# Altium integrated library Linear Technology Power Management Switching Regulator LT1074-LT8705.IntLib: 2252 symbols (part 71 of 148)
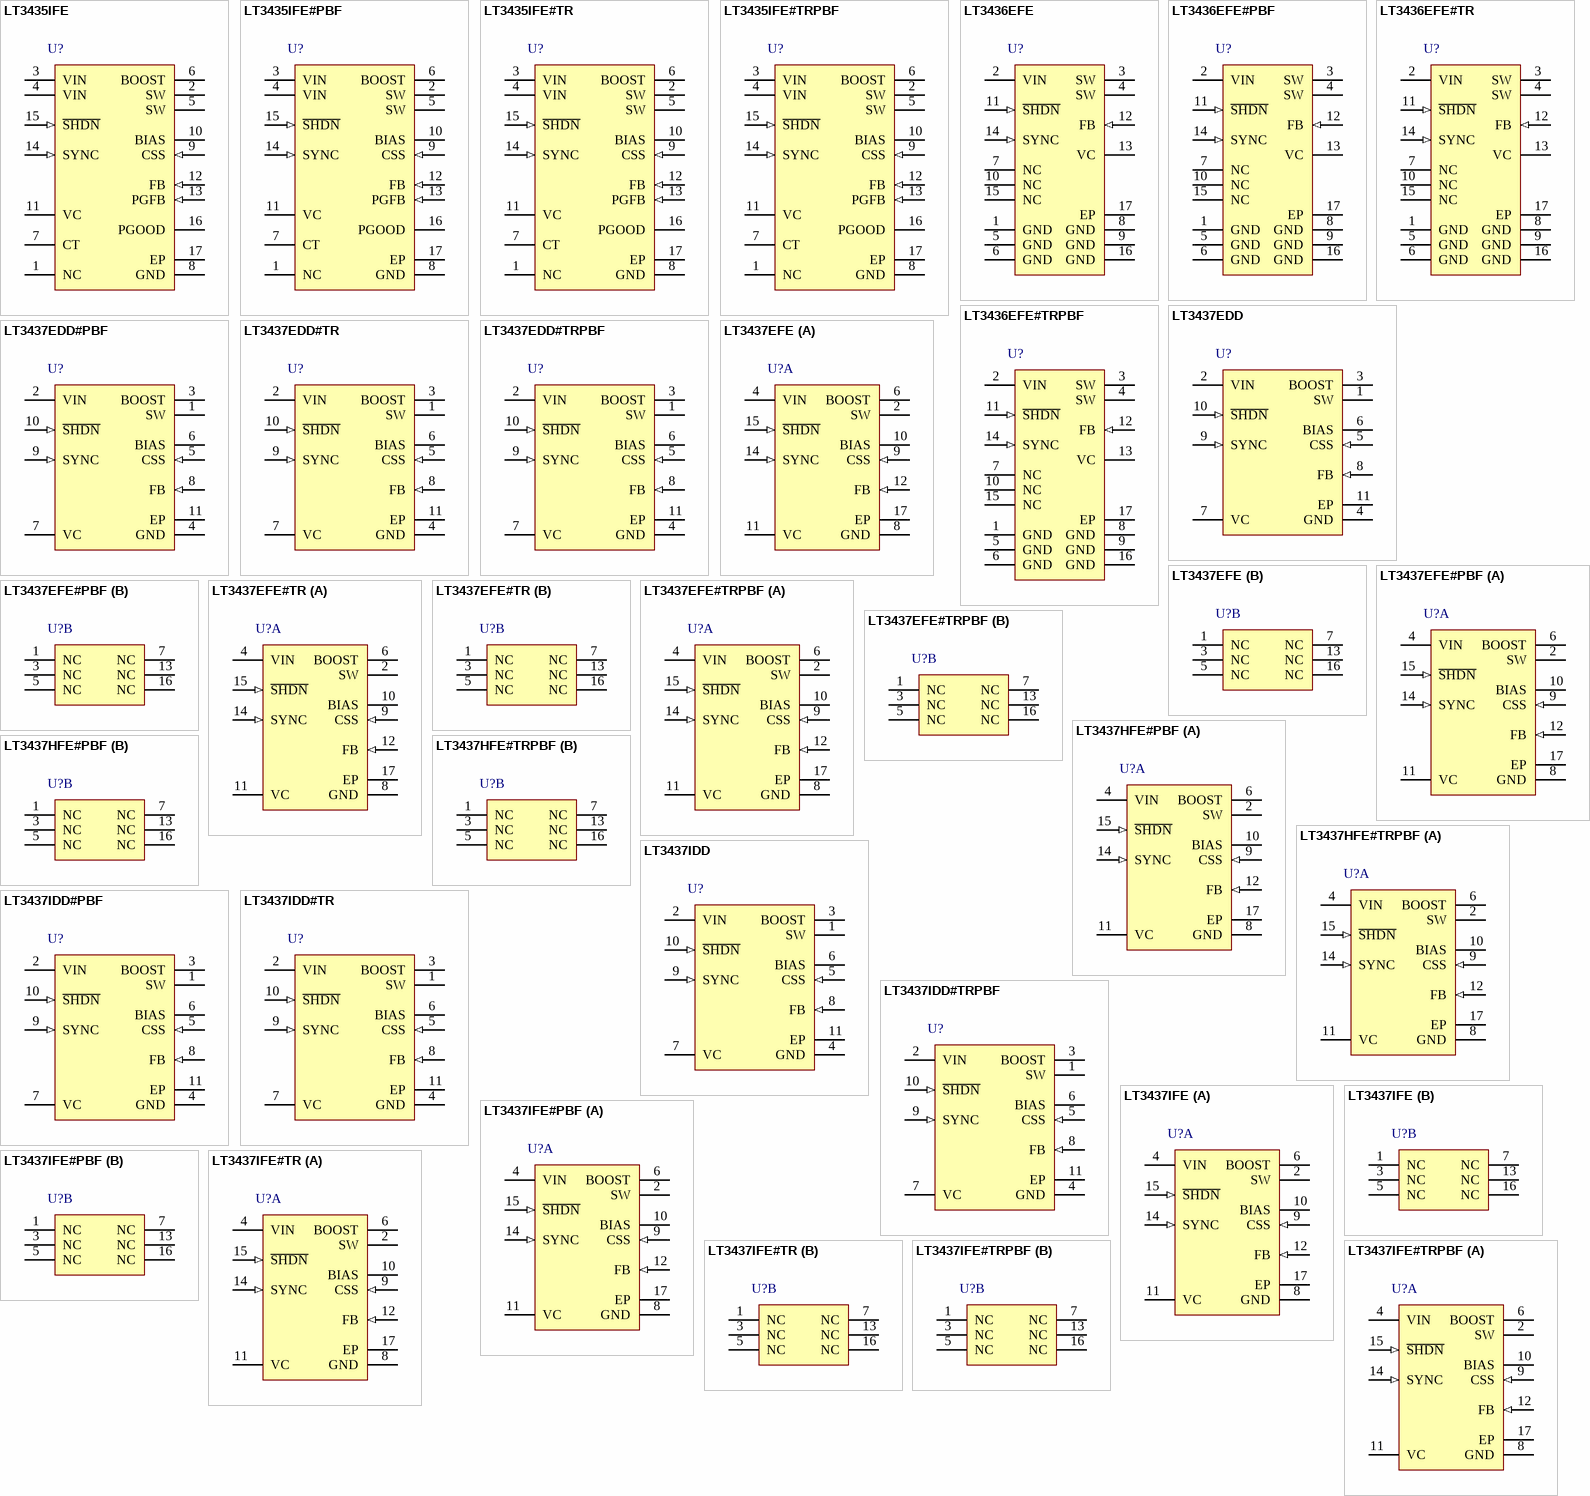
[diagram p141: symbols LT3435IFE to LT3437IFE#TRPBF]

## LT3437IDD#TRPBF
designator U?
High Voltage 500 mA, 200 kHz Step-Down Switching Regulator with 100 uA Quiescent Current, 10-pin SON (DD-10), -40 to 125 degC, Pb-Free, Tape and Reel; Manufacturer: Linear Technology; PartNumber: LT3437IDD#TRPBF; Frequency Sync Range: 240kHz - 700kHz; Number of Outputs: 1; Over Voltage Protection(V): 80; DatasheetVersion: Rev. C; PackageVersion: Rev. C, 06/2010; PackageReference: DD-10; PackageDescription: 10-Pin Plastic DFN, Body 3 x 3 mm, Pitch 0.5 mm; Supplier 1: Digi-Key; Supplier Part Number 1: LT3437IDD#TRPBF-ND; Supplier 2: Newark; Supplier Part Number 2: 57M8150; Packing: Tape and Reel; RoHS: TRUE; Mounting Technology: Surface Mount; Code_JEDEC: MO-229; ComponentLink1Description: Manufacturer URL; ComponentLink1URL: http://www.linear.com/; ComponentLink2Description: Datasheet; ComponentLink2URL: http://cds.linear.com/docs/en/datasheet/3437fc.pdf; ComponentLink3Description: Package Specification; ComponentLink3URL: http://cds.linear.com/docs/en/packaging/DFN_10_05-08-1699.pdf
footprint LT-DD-10_V (SON, 10-Leads, Body 3x3mm, Pitch 0.5mm, Thermal Pad 2.38x1.65mm)
pins: 1 SW (power) "The SW pin is the emitter of the on-chip power NPN switch. This pin is driven up to the input pin voltage during switch on time. Inductor current drives the SW pin negative during switch off time. Negative voltage is clamped (See Datasheet)", 2 VIN (power) "This is the collector of the on-chip power NPN switch. VIN powers the internal control circuitry when a voltage on the BIAS pin is not present. High di/dt edges occur on this pin during switch turn on and off. Keep the path (See Datasheet)", 3 BOOST "The BOOST pin is used to provide a drive voltage, higher than the input voltage, to the internal bipolar NPN power switch. Without this added voltage, the typical switch voltage loss would be about 1.5V. The additional BOOST (See Datasheet)", 4 GND (power) "The GND pin connection acts as the reference for the regulated output, so load regulation will suffer if the “ground?end of the load is not at the same voltage as the GND pin of the IC. This condition will occur w(See Datasheet)", 5 CSS (in) "A capacitor from the CSS pin to the regulated output voltage determines the output voltage ramp rate during start-up. When the current through the CSS capacitor exceeds the CSS threshold (ICSS), the voltage ramp of the (See Datasheet)", 6 BIAS (power) "The BIAS pin is used to improve efficiency when operating at higher input voltages and light load current. Connecting this pin to the regulated output voltage forces most of the internal circuitry to draw its operating (See Datasheet)", 7 VC "The VC pin is the output of the error amplifier and the input of the peak switch current comparator. It is normally used for frequency compensation, but can also serve as a current clamp or control loop override. VC sits at (See Datasheet)", 8 FB (in) "The feedback pin is used to determine the output voltage using an external voltage divider from the output that generates 1.25V at the FB pin. When the FB pin drops below 0.9V, switching frequency is reduced, the SYNC (See Datasheet)", 9 SYNC (in) "The SYNC pin is used to synchronize the internal oscillator to an external signal. It is directly logic compatible and can be driven with any signal between 25% and 75% duty cycle. The synchronizing range is equal to maximum (See Datasheet)", 10 ~{SHDN} (in) "The S\H\D\N\ pin is used to turn off the regulator and to reduce input current to less than 1uA. The S\H\D\N\ pin requires a voltage above 1.3V with a typical source current of 5uA to take the IC out of the shutdown state.", 11 EP (power) "Ground. Must be soldered to the PCB."

## LT3437IFE
designator U?
High Voltage 500 mA, 200 kHz Step-Down Switching Regulator with 100 uA Quiescent Current, 16-pin SOP (FE-16), -40 to 125 degC; Manufacturer: Linear Technology; PartNumber: LT3437IFE; Frequency Sync Range: 240kHz - 700kHz; Number of Outputs: 1; Over Voltage Protection(V): 80; DatasheetVersion: Rev. C; PackageVersion: Rev. J, 11/2012; PackageReference: FE-16; PackageDescription: 16-Pin Plastic TSSOP, Body 5 x 4.4 mm, Pitch 0.65 mm; Supplier 1: Newark; Supplier Part Number 1: 57M8151; RoHS: FALSE; Mounting Technology: Surface Mount; ComponentLink1Description: Manufacturer URL; ComponentLink1URL: http://www.linear.com/; ComponentLink2Description: Datasheet; ComponentLink2URL: http://cds.linear.com/docs/en/datasheet/3437fc.pdf; ComponentLink3Description: Package Specification; ComponentLink3URL: http://cds.linear.com/docs/en/packaging/05081663__J_FE16(BC).pdf
footprint LT-FE-16-EPV-BC_N (SOP, 16-Leads, Body 5.1x4.5mm, Pitch 0.65mm, Thermal Pad 3.58x2.94mm, IPC Medium Density)
footprint LT-FE-16-EPV-BC_L (SOP, 16-Leads, Body 5.1x4.5mm, Pitch 0.65mm, Thermal Pad 3.58x2.94mm, IPC High Density)
footprint LT-FE-16-EPV-BC_M (SOP, 16-Leads, Body 5.1x4.5mm, Pitch 0.65mm, Thermal Pad 3.58x2.94mm, IPC Low Density)
part A pins: 2 SW (power) "The SW pin is the emitter of the on-chip power NPN switch. This pin is driven up to the input pin voltage during switch on time. Inductor current drives the SW pin negative during switch off time. Negative voltage is clamped (See Datasheet)", 4 VIN (power) "This is the collector of the on-chip power NPN switch. VIN powers the internal control circuitry when a voltage on the BIAS pin is not present. High di/dt edges occur on this pin during switch turn on and off. Keep the path (See Datasheet)", 6 BOOST "The BOOST pin is used to provide a drive voltage, higher than the input voltage, to the internal bipolar NPN power switch. Without this added voltage, the typical switch voltage loss would be about 1.5V. The additional BOOST (See Datasheet)", 8 GND (power) "The GND pin connection acts as the reference for the regulated output, so load regulation will suffer if the “ground?end of the load is not at the same voltage as the GND pin of the IC. This condition will occur w(See Datasheet)", 9 CSS (in) "A capacitor from the CSS pin to the regulated output voltage determines the output voltage ramp rate during start-up. When the current through the CSS capacitor exceeds the CSS threshold (ICSS), the voltage ramp of the (See Datasheet)", 10 BIAS (power) "The BIAS pin is used to improve efficiency when operating at higher input voltages and light load current. Connecting this pin to the regulated output voltage forces most of the internal circuitry to draw its operating (See Datasheet)", 11 VC "The VC pin is the output of the error amplifier and the input of the peak switch current comparator. It is normally used for frequency compensation, but can also serve as a current clamp or control loop override. VC sits at (See Datasheet)", 12 FB (in) "The feedback pin is used to determine the output voltage using an external voltage divider from the output that generates 1.25V at the FB pin. When the FB pin drops below 0.9V, switching frequency is reduced, the SYNC (See Datasheet)", 14 SYNC (in) "The SYNC pin is used to synchronize the internal oscillator to an external signal. It is directly logic compatible and can be driven with any signal between 25% and 75% duty cycle. The synchronizing range is equal to maximum (See Datasheet)", 15 ~{SHDN} (in) "The S\H\D\N\ pin is used to turn off the regulator and to reduce input current to less than 1uA. The S\H\D\N\ pin requires a voltage above 1.3V with a typical source current of 5uA to take the IC out of the shutdown state.", 17 EP (power) "Ground. Must be soldered to the PCB."
part B pins: 1 NC "No Connection. The NC pins are electrically isolated from the LT3437. The NC pins may be connected to PCB traces to aid PCB layout.", 3 NC "No Connection. The NC pins are electrically isolated from the LT3437. The NC pins may be connected to PCB traces to aid PCB layout.", 5 NC "No Connection. The NC pins are electrically isolated from the LT3437. The NC pins may be connected to PCB traces to aid PCB layout.", 7 NC "No Connection. The NC pins are electrically isolated from the LT3437. The NC pins may be connected to PCB traces to aid PCB layout.", 13 NC "No Connection. The NC pins are electrically isolated from the LT3437. The NC pins may be connected to PCB traces to aid PCB layout.", 16 NC "No Connection. The NC pins are electrically isolated from the LT3437. The NC pins may be connected to PCB traces to aid PCB layout."

## LT3437IFE#PBF
designator U?
High Voltage 500 mA, 200 kHz Step-Down Switching Regulator with 100 uA Quiescent Current, 16-pin SOP (FE-16), -40 to 125 degC, Pb-Free; Manufacturer: Linear Technology; PartNumber: LT3437IFE#PBF; Frequency Sync Range: 240kHz - 700kHz; Number of Outputs: 1; Over Voltage Protection(V): 80; DatasheetVersion: Rev. C; PackageVersion: Rev. J, 11/2012; PackageReference: FE-16; PackageDescription: 16-Pin Plastic TSSOP, Body 5 x 4.4 mm, Pitch 0.65 mm; Supplier 1: Digi-Key; Supplier Part Number 1: LT3437IFE#PBF-ND; Supplier 2: Farnell; Supplier Part Number 2: 2294900; Supplier 3: Newark; Supplier Part Number 3: 57M8152; RoHS: TRUE; Mounting Technology: Surface Mount; ComponentLink1Description: Manufacturer URL; ComponentLink1URL: http://www.linear.com/; ComponentLink2Description: Datasheet; ComponentLink2URL: http://cds.linear.com/docs/en/datasheet/3437fc.pdf; ComponentLink3Description: Package Specification; ComponentLink3URL: http://cds.linear.com/docs/en/packaging/05081663__J_FE16(BC).pdf
footprint LT-FE-16-EPV-BC_N (SOP, 16-Leads, Body 5.1x4.5mm, Pitch 0.65mm, Thermal Pad 3.58x2.94mm, IPC Medium Density)
footprint LT-FE-16-EPV-BC_L (SOP, 16-Leads, Body 5.1x4.5mm, Pitch 0.65mm, Thermal Pad 3.58x2.94mm, IPC High Density)
footprint LT-FE-16-EPV-BC_M (SOP, 16-Leads, Body 5.1x4.5mm, Pitch 0.65mm, Thermal Pad 3.58x2.94mm, IPC Low Density)
part A pins: 2 SW (power) "The SW pin is the emitter of the on-chip power NPN switch. This pin is driven up to the input pin voltage during switch on time. Inductor current drives the SW pin negative during switch off time. Negative voltage is clamped (See Datasheet)", 4 VIN (power) "This is the collector of the on-chip power NPN switch. VIN powers the internal control circuitry when a voltage on the BIAS pin is not present. High di/dt edges occur on this pin during switch turn on and off. Keep the path (See Datasheet)", 6 BOOST "The BOOST pin is used to provide a drive voltage, higher than the input voltage, to the internal bipolar NPN power switch. Without this added voltage, the typical switch voltage loss would be about 1.5V. The additional BOOST (See Datasheet)", 8 GND (power) "The GND pin connection acts as the reference for the regulated output, so load regulation will suffer if the “ground?end of the load is not at the same voltage as the GND pin of the IC. This condition will occur w(See Datasheet)", 9 CSS (in) "A capacitor from the CSS pin to the regulated output voltage determines the output voltage ramp rate during start-up. When the current through the CSS capacitor exceeds the CSS threshold (ICSS), the voltage ramp of the (See Datasheet)", 10 BIAS (power) "The BIAS pin is used to improve efficiency when operating at higher input voltages and light load current. Connecting this pin to the regulated output voltage forces most of the internal circuitry to draw its operating (See Datasheet)", 11 VC "The VC pin is the output of the error amplifier and the input of the peak switch current comparator. It is normally used for frequency compensation, but can also serve as a current clamp or control loop override. VC sits at (See Datasheet)", 12 FB (in) "The feedback pin is used to determine the output voltage using an external voltage divider from the output that generates 1.25V at the FB pin. When the FB pin drops below 0.9V, switching frequency is reduced, the SYNC (See Datasheet)", 14 SYNC (in) "The SYNC pin is used to synchronize the internal oscillator to an external signal. It is directly logic compatible and can be driven with any signal between 25% and 75% duty cycle. The synchronizing range is equal to maximum (See Datasheet)", 15 ~{SHDN} (in) "The S\H\D\N\ pin is used to turn off the regulator and to reduce input current to less than 1uA. The S\H\D\N\ pin requires a voltage above 1.3V with a typical source current of 5uA to take the IC out of the shutdown state.", 17 EP (power) "Ground. Must be soldered to the PCB."
part B pins: 1 NC "No Connection. The NC pins are electrically isolated from the LT3437. The NC pins may be connected to PCB traces to aid PCB layout.", 3 NC "No Connection. The NC pins are electrically isolated from the LT3437. The NC pins may be connected to PCB traces to aid PCB layout.", 5 NC "No Connection. The NC pins are electrically isolated from the LT3437. The NC pins may be connected to PCB traces to aid PCB layout.", 7 NC "No Connection. The NC pins are electrically isolated from the LT3437. The NC pins may be connected to PCB traces to aid PCB layout.", 13 NC "No Connection. The NC pins are electrically isolated from the LT3437. The NC pins may be connected to PCB traces to aid PCB layout.", 16 NC "No Connection. The NC pins are electrically isolated from the LT3437. The NC pins may be connected to PCB traces to aid PCB layout."

## LT3437IFE#TR
designator U?
High Voltage 500 mA, 200 kHz Step-Down Switching Regulator with 100 uA Quiescent Current, 16-pin SOP (FE-16), -40 to 125 degC, Tape and Reel; Manufacturer: Linear Technology; PartNumber: LT3437IFE#TR; Frequency Sync Range: 240kHz - 700kHz; Number of Outputs: 1; Over Voltage Protection(V): 80; DatasheetVersion: Rev. C; PackageVersion: Rev. J, 11/2012; PackageReference: FE-16; PackageDescription: 16-Pin Plastic TSSOP, Body 5 x 4.4 mm, Pitch 0.65 mm; Packing: Tape and Reel; RoHS: FALSE; Mounting Technology: Surface Mount; ComponentLink1Description: Manufacturer URL; ComponentLink1URL: http://www.linear.com/; ComponentLink2Description: Datasheet; ComponentLink2URL: http://cds.linear.com/docs/en/datasheet/3437fc.pdf; ComponentLink3Description: Package Specification; ComponentLink3URL: http://cds.linear.com/docs/en/packaging/05081663__J_FE16(BC).pdf
footprint LT-FE-16-EPV-BC_N (SOP, 16-Leads, Body 5.1x4.5mm, Pitch 0.65mm, Thermal Pad 3.58x2.94mm, IPC Medium Density)
footprint LT-FE-16-EPV-BC_L (SOP, 16-Leads, Body 5.1x4.5mm, Pitch 0.65mm, Thermal Pad 3.58x2.94mm, IPC High Density)
footprint LT-FE-16-EPV-BC_M (SOP, 16-Leads, Body 5.1x4.5mm, Pitch 0.65mm, Thermal Pad 3.58x2.94mm, IPC Low Density)
part A pins: 2 SW (power) "The SW pin is the emitter of the on-chip power NPN switch. This pin is driven up to the input pin voltage during switch on time. Inductor current drives the SW pin negative during switch off time. Negative voltage is clamped (See Datasheet)", 4 VIN (power) "This is the collector of the on-chip power NPN switch. VIN powers the internal control circuitry when a voltage on the BIAS pin is not present. High di/dt edges occur on this pin during switch turn on and off. Keep the path (See Datasheet)", 6 BOOST "The BOOST pin is used to provide a drive voltage, higher than the input voltage, to the internal bipolar NPN power switch. Without this added voltage, the typical switch voltage loss would be about 1.5V. The additional BOOST (See Datasheet)", 8 GND (power) "The GND pin connection acts as the reference for the regulated output, so load regulation will suffer if the “ground?end of the load is not at the same voltage as the GND pin of the IC. This condition will occur w(See Datasheet)", 9 CSS (in) "A capacitor from the CSS pin to the regulated output voltage determines the output voltage ramp rate during start-up. When the current through the CSS capacitor exceeds the CSS threshold (ICSS), the voltage ramp of the (See Datasheet)", 10 BIAS (power) "The BIAS pin is used to improve efficiency when operating at higher input voltages and light load current. Connecting this pin to the regulated output voltage forces most of the internal circuitry to draw its operating (See Datasheet)", 11 VC "The VC pin is the output of the error amplifier and the input of the peak switch current comparator. It is normally used for frequency compensation, but can also serve as a current clamp or control loop override. VC sits at (See Datasheet)", 12 FB (in) "The feedback pin is used to determine the output voltage using an external voltage divider from the output that generates 1.25V at the FB pin. When the FB pin drops below 0.9V, switching frequency is reduced, the SYNC (See Datasheet)", 14 SYNC (in) "The SYNC pin is used to synchronize the internal oscillator to an external signal. It is directly logic compatible and can be driven with any signal between 25% and 75% duty cycle. The synchronizing range is equal to maximum (See Datasheet)", 15 ~{SHDN} (in) "The S\H\D\N\ pin is used to turn off the regulator and to reduce input current to less than 1uA. The S\H\D\N\ pin requires a voltage above 1.3V with a typical source current of 5uA to take the IC out of the shutdown state.", 17 EP (power) "Ground. Must be soldered to the PCB."
part B pins: 1 NC "No Connection. The NC pins are electrically isolated from the LT3437. The NC pins may be connected to PCB traces to aid PCB layout.", 3 NC "No Connection. The NC pins are electrically isolated from the LT3437. The NC pins may be connected to PCB traces to aid PCB layout.", 5 NC "No Connection. The NC pins are electrically isolated from the LT3437. The NC pins may be connected to PCB traces to aid PCB layout.", 7 NC "No Connection. The NC pins are electrically isolated from the LT3437. The NC pins may be connected to PCB traces to aid PCB layout.", 13 NC "No Connection. The NC pins are electrically isolated from the LT3437. The NC pins may be connected to PCB traces to aid PCB layout.", 16 NC "No Connection. The NC pins are electrically isolated from the LT3437. The NC pins may be connected to PCB traces to aid PCB layout."

## LT3437IFE#TRPBF
designator U?
High Voltage 500 mA, 200 kHz Step-Down Switching Regulator with 100 uA Quiescent Current, 16-pin SOP (FE-16), -40 to 125 degC, Pb-Free, Tape and Reel; Manufacturer: Linear Technology; PartNumber: LT3437IFE#TRPBF; Frequency Sync Range: 240kHz - 700kHz; Number of Outputs: 1; Over Voltage Protection(V): 80; DatasheetVersion: Rev. C; PackageVersion: Rev. J, 11/2012; PackageReference: FE-16; PackageDescription: 16-Pin Plastic TSSOP, Body 5 x 4.4 mm, Pitch 0.65 mm; Supplier 1: Digi-Key; Supplier Part Number 1: LT3437IFE#TRPBF-ND; Supplier 2: Newark; Supplier Part Number 2: 57M8154; Packing: Tape and Reel; RoHS: TRUE; Mounting Technology: Surface Mount; ComponentLink1Description: Manufacturer URL; ComponentLink1URL: http://www.linear.com/; ComponentLink2Description: Datasheet; ComponentLink2URL: http://cds.linear.com/docs/en/datasheet/3437fc.pdf; ComponentLink3Description: Package Specification; ComponentLink3URL: http://cds.linear.com/docs/en/packaging/05081663__J_FE16(BC).pdf
footprint LT-FE-16-EPV-BC_N (SOP, 16-Leads, Body 5.1x4.5mm, Pitch 0.65mm, Thermal Pad 3.58x2.94mm, IPC Medium Density)
footprint LT-FE-16-EPV-BC_L (SOP, 16-Leads, Body 5.1x4.5mm, Pitch 0.65mm, Thermal Pad 3.58x2.94mm, IPC High Density)
footprint LT-FE-16-EPV-BC_M (SOP, 16-Leads, Body 5.1x4.5mm, Pitch 0.65mm, Thermal Pad 3.58x2.94mm, IPC Low Density)
part A pins: 2 SW (power) "The SW pin is the emitter of the on-chip power NPN switch. This pin is driven up to the input pin voltage during switch on time. Inductor current drives the SW pin negative during switch off time. Negative voltage is clamped (See Datasheet)", 4 VIN (power) "This is the collector of the on-chip power NPN switch. VIN powers the internal control circuitry when a voltage on the BIAS pin is not present. High di/dt edges occur on this pin during switch turn on and off. Keep the path (See Datasheet)", 6 BOOST "The BOOST pin is used to provide a drive voltage, higher than the input voltage, to the internal bipolar NPN power switch. Without this added voltage, the typical switch voltage loss would be about 1.5V. The additional BOOST (See Datasheet)", 8 GND (power) "The GND pin connection acts as the reference for the regulated output, so load regulation will suffer if the “ground?end of the load is not at the same voltage as the GND pin of the IC. This condition will occur w(See Datasheet)", 9 CSS (in) "A capacitor from the CSS pin to the regulated output voltage determines the output voltage ramp rate during start-up. When the current through the CSS capacitor exceeds the CSS threshold (ICSS), the voltage ramp of the (See Datasheet)", 10 BIAS (power) "The BIAS pin is used to improve efficiency when operating at higher input voltages and light load current. Connecting this pin to the regulated output voltage forces most of the internal circuitry to draw its operating (See Datasheet)", 11 VC "The VC pin is the output of the error amplifier and the input of the peak switch current comparator. It is normally used for frequency compensation, but can also serve as a current clamp or control loop override. VC sits at (See Datasheet)", 12 FB (in) "The feedback pin is used to determine the output voltage using an external voltage divider from the output that generates 1.25V at the FB pin. When the FB pin drops below 0.9V, switching frequency is reduced, the SYNC (See Datasheet)", 14 SYNC (in) "The SYNC pin is used to synchronize the internal oscillator to an external signal. It is directly logic compatible and can be driven with any signal between 25% and 75% duty cycle. The synchronizing range is equal to maximum (See Datasheet)", 15 ~{SHDN} (in) "The S\H\D\N\ pin is used to turn off the regulator and to reduce input current to less than 1uA. The S\H\D\N\ pin requires a voltage above 1.3V with a typical source current of 5uA to take the IC out of the shutdown state.", 17 EP (power) "Ground. Must be soldered to the PCB."
part B pins: 1 NC "No Connection. The NC pins are electrically isolated from the LT3437. The NC pins may be connected to PCB traces to aid PCB layout.", 3 NC "No Connection. The NC pins are electrically isolated from the LT3437. The NC pins may be connected to PCB traces to aid PCB layout.", 5 NC "No Connection. The NC pins are electrically isolated from the LT3437. The NC pins may be connected to PCB traces to aid PCB layout.", 7 NC "No Connection. The NC pins are electrically isolated from the LT3437. The NC pins may be connected to PCB traces to aid PCB layout.", 13 NC "No Connection. The NC pins are electrically isolated from the LT3437. The NC pins may be connected to PCB traces to aid PCB layout.", 16 NC "No Connection. The NC pins are electrically isolated from the LT3437. The NC pins may be connected to PCB traces to aid PCB layout."

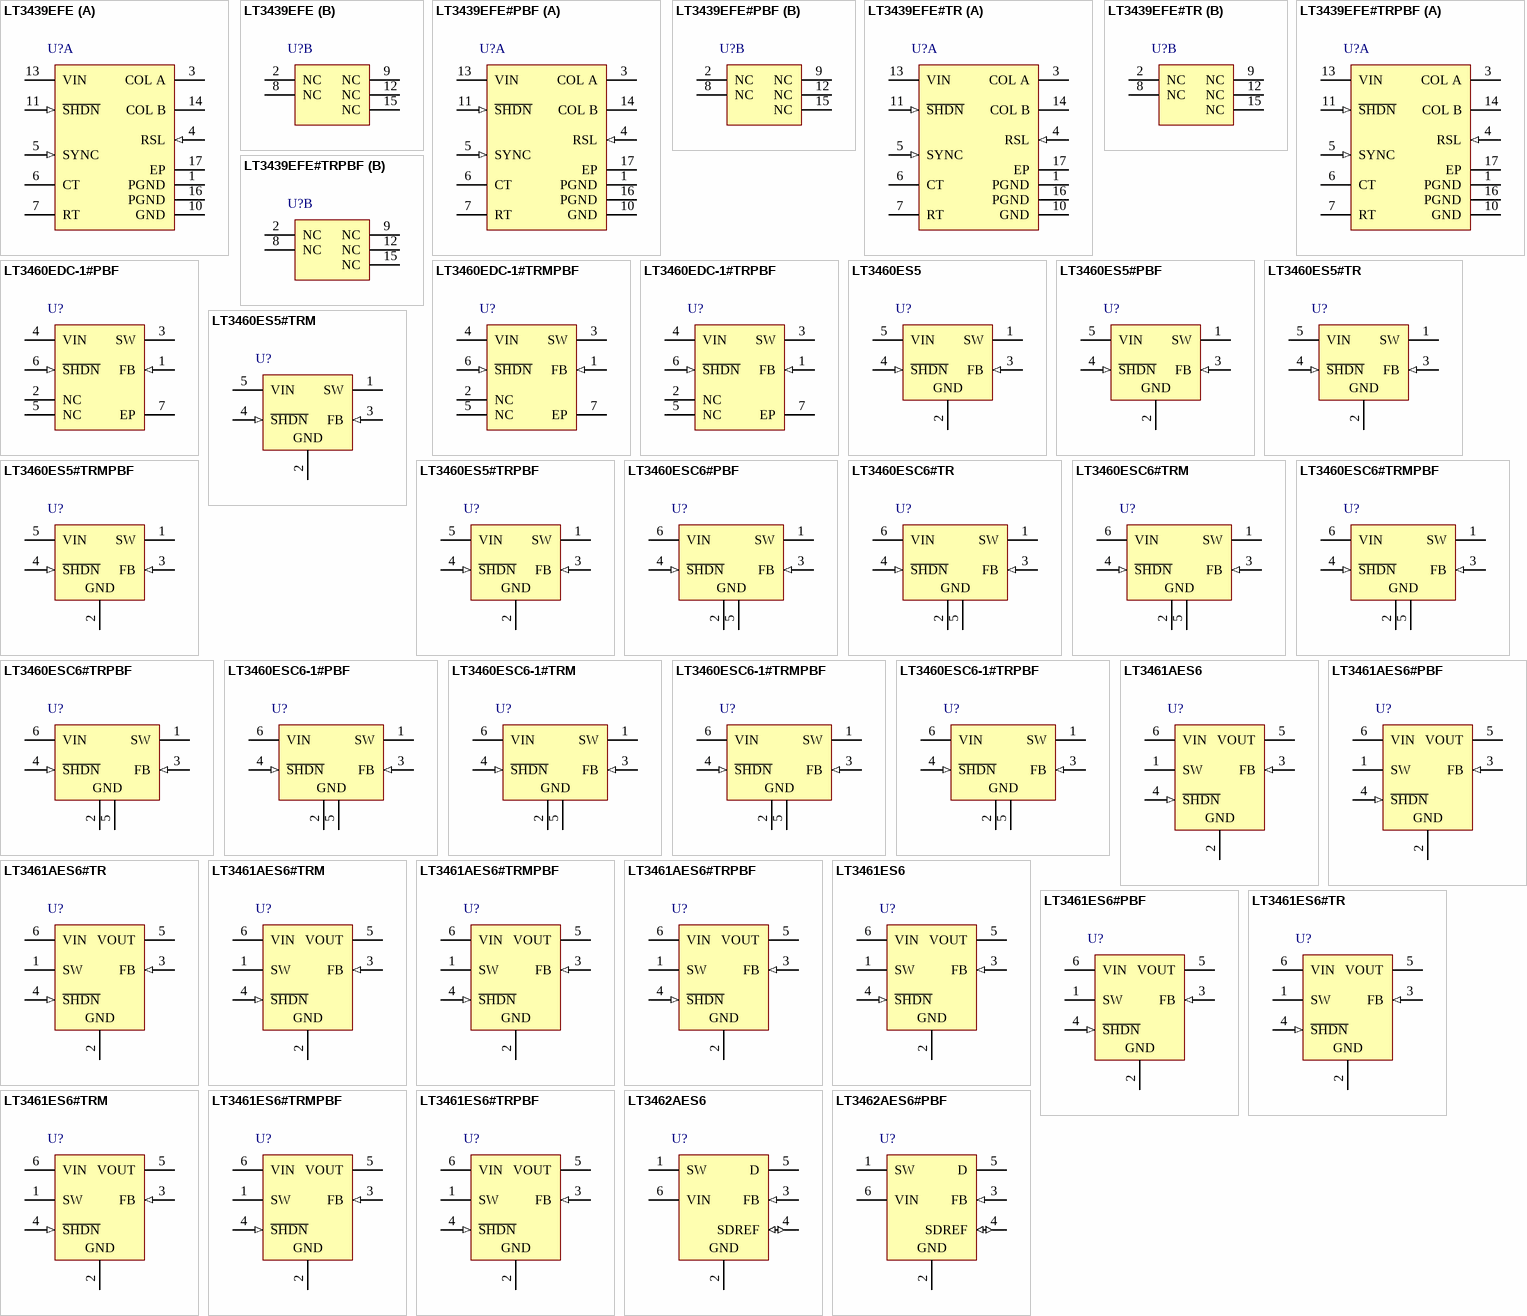
[diagram p35: symbols LT3439EFE to LT3462AES6#PBF]

## LT3439EFE
designator U?
Slew Rate Controlled Ultralow Noise1 A Isolated DC/DC Transformer Driver Min, 16-pin SOP (FE-16-EPV-BA), -40 to 125 degC; Manufacturer: Linear Technology; PartNumber: LT3439EFE; Frequency Sync Range: 20kHz - 300kHz; Number of Outputs: 1; PackageVersion: Rev. I, 05/2011; PackageReference: FE-16; PackageDescription: 16-Pin Plastic TSSOP, Body 5 x 4.4 mm, Pitch 0.65 mm; Supplier 1: Digi-Key; Supplier Part Number 1: LT3439EFE-ND; RoHS: FALSE; Mounting Technology: Surface Mount; ComponentLink1Description: Manufacturer URL; ComponentLink1URL: http://www.linear.com/; ComponentLink2Description: Datasheet; ComponentLink2URL: http://cds.linear.com/docs/en/datasheet/3439fs.pdf; ComponentLink3Description: Package Specification; ComponentLink3URL: http://cds.linear.com/docs/en/packaging/05081663_J_FE16(BA).pdf
footprint LT-FE-16-EPV-BA_N (SOP, 16-Leads, Body 5x4.4mm, Pitch 0.65mm, Thermal Pad 2.74x2.74mm, IPC Medium Density)
footprint LT-FE-16-EPV-BA_L (SOP, 16-Leads, Body 5x4.4mm, Pitch 0.65mm, Thermal Pad 2.74x2.74mm, IPC High Density)
footprint LT-FE-16-EPV-BA_M (SOP, 16-Leads, Body 5x4.4mm, Pitch 0.65mm, Thermal Pad 2.74x2.74mm, IPC Low Density)
part A pins: 1 PGND (power) "Power ground is connected to the emitter of the power switches via an internal sense resistor. It has large currents flowing through it and should be connected to a good quality ground plane.", 3 COL A (oc) "These are the open collectors of the output power switches. They are connected to the outer terminals of the center tap transformer. Large currents flow into these pins so external traces should be kept as short as possible.", 4 RSL (in) "The slew control resistor sets the maximum current and voltage slew rate for the collectors A and B. The minimum resistor value is 3.4k for fast slewing and the maximum resistor is 34k for slow slewing. For more details, see (See Datasheet)", 5 SYNC (in) "The SYNC pin can be used to synchronize the oscillator to an external clock. RT and CT should be set such that the oscillator clock frequency is approximately 10% below the external clock frequency. If unused, this pin (See Datasheet)", 6 CT "The oscillator capacitor pin is used in conjunction with the RT pin to set the oscillator frequency. For RT = 16.9k, CT can be calculated as follows: CT(nF) = 70/fOSC(kHz). The transformer operating frequency and the (See Datasheet)", 7 RT "The oscillator resistor pin is used to set the charge and discharge currents of the oscillator capacitor. The nominal value is 16.9k. The resistance can be adjusted between +/-25% of nominal for better frequency accuracy.", 10 GND (power) "Signal Ground. The oscillator, slew control circuitry and the internal regulator are referred to signal ground. Internally, signal ground is tied to substrate and the exposed backside of the device. Connect the GND pin to (See Datasheet)", 11 ~{SHDN} (in) "The S\H\D\N\ pin is used to shut down the part. Grounding this pin will disable all internal circuitry. Increasing the S\H\D\N\ voltage above the turn-on threshold will enable the part. At the turn-on threshold, (See Datasheet)", 13 VIN (power) "This is the supply pin for the part and should be bypassed with a 4.7uF or greater, low ESR capacitor. When VIN <= 2.5V, an internal undervoltage lockout circuit will trip and turn both outputs off.", 14 COL B (oc) "These are the open collectors of the output power switches. They are connected to the outer terminals of the center tap transformer. Large currents flow into these pins so external traces should be kept as short as possible.", 16 PGND (power) "Power ground is connected to the emitter of the power switches via an internal sense resistor. It has large currents flowing through it and should be connected to a good quality ground plane.", 17 EP (power)
part B pins: 2 NC, 8 NC, 9 NC, 12 NC, 15 NC

## LT3439EFE#PBF
designator U?
Slew Rate Controlled Ultralow Noise1 A Isolated DC/DC Transformer Driver Min, 16-pin SOP (FE-16-EPV-BA), -40 to 125 degC, Pb-Free; Manufacturer: Linear Technology; PartNumber: LT3439EFE#PBF; Frequency Sync Range: 20kHz - 300kHz; Number of Outputs: 1; PackageVersion: Rev. I, 05/2011; PackageReference: FE-16; PackageDescription: 16-Pin Plastic TSSOP, Body 5 x 4.4 mm, Pitch 0.65 mm; Supplier 1: Digi-Key; Supplier Part Number 1: LT3439EFE#PBF-ND; Supplier 2: Farnell; Supplier Part Number 2: 1273815; Supplier 3: Newark; Supplier Part Number 3: 57M8156; RoHS: TRUE; Mounting Technology: Surface Mount; ComponentLink1Description: Manufacturer URL; ComponentLink1URL: http://www.linear.com/; ComponentLink2Description: Datasheet; ComponentLink2URL: http://cds.linear.com/docs/en/datasheet/3439fs.pdf; ComponentLink3Description: Package Specification; ComponentLink3URL: http://cds.linear.com/docs/en/packaging/05081663_J_FE16(BA).pdf
footprint LT-FE-16-EPV-BA_N (SOP, 16-Leads, Body 5x4.4mm, Pitch 0.65mm, Thermal Pad 2.74x2.74mm, IPC Medium Density)
footprint LT-FE-16-EPV-BA_L (SOP, 16-Leads, Body 5x4.4mm, Pitch 0.65mm, Thermal Pad 2.74x2.74mm, IPC High Density)
footprint LT-FE-16-EPV-BA_M (SOP, 16-Leads, Body 5x4.4mm, Pitch 0.65mm, Thermal Pad 2.74x2.74mm, IPC Low Density)
part A pins: 1 PGND (power) "Power ground is connected to the emitter of the power switches via an internal sense resistor. It has large currents flowing through it and should be connected to a good quality ground plane.", 3 COL A (oc) "These are the open collectors of the output power switches. They are connected to the outer terminals of the center tap transformer. Large currents flow into these pins so external traces should be kept as short as possible.", 4 RSL (in) "The slew control resistor sets the maximum current and voltage slew rate for the collectors A and B. The minimum resistor value is 3.4k for fast slewing and the maximum resistor is 34k for slow slewing. For more details, see (See Datasheet)", 5 SYNC (in) "The SYNC pin can be used to synchronize the oscillator to an external clock. RT and CT should be set such that the oscillator clock frequency is approximately 10% below the external clock frequency. If unused, this pin (See Datasheet)", 6 CT "The oscillator capacitor pin is used in conjunction with the RT pin to set the oscillator frequency. For RT = 16.9k, CT can be calculated as follows: CT(nF) = 70/fOSC(kHz). The transformer operating frequency and the (See Datasheet)", 7 RT "The oscillator resistor pin is used to set the charge and discharge currents of the oscillator capacitor. The nominal value is 16.9k. The resistance can be adjusted between +/-25% of nominal for better frequency accuracy.", 10 GND (power) "Signal Ground. The oscillator, slew control circuitry and the internal regulator are referred to signal ground. Internally, signal ground is tied to substrate and the exposed backside of the device. Connect the GND pin to (See Datasheet)", 11 ~{SHDN} (in) "The S\H\D\N\ pin is used to shut down the part. Grounding this pin will disable all internal circuitry. Increasing the S\H\D\N\ voltage above the turn-on threshold will enable the part. At the turn-on threshold, (See Datasheet)", 13 VIN (power) "This is the supply pin for the part and should be bypassed with a 4.7uF or greater, low ESR capacitor. When VIN <= 2.5V, an internal undervoltage lockout circuit will trip and turn both outputs off.", 14 COL B (oc) "These are the open collectors of the output power switches. They are connected to the outer terminals of the center tap transformer. Large currents flow into these pins so external traces should be kept as short as possible.", 16 PGND (power) "Power ground is connected to the emitter of the power switches via an internal sense resistor. It has large currents flowing through it and should be connected to a good quality ground plane.", 17 EP (power)
part B pins: 2 NC, 8 NC, 9 NC, 12 NC, 15 NC

## LT3439EFE#TR
designator U?
Slew Rate Controlled Ultralow Noise1 A Isolated DC/DC Transformer Driver Min, 16-pin SOP (FE-16-EPV-BA), -40 to 125 degC, Tape and Reel; Manufacturer: Linear Technology; PartNumber: LT3439EFE#TR; Frequency Sync Range: 20kHz - 300kHz; Number of Outputs: 1; PackageVersion: Rev. I, 05/2011; PackageReference: FE-16; PackageDescription: 16-Pin Plastic TSSOP, Body 5 x 4.4 mm, Pitch 0.65 mm; Supplier 1: Digi-Key; Supplier Part Number 1: LT3439EFE#TR-ND; Packing: Tape and Reel; RoHS: FALSE; Mounting Technology: Surface Mount; ComponentLink1Description: Manufacturer URL; ComponentLink1URL: http://www.linear.com/; ComponentLink2Description: Datasheet; ComponentLink2URL: http://cds.linear.com/docs/en/datasheet/3439fs.pdf; ComponentLink3Description: Package Specification; ComponentLink3URL: http://cds.linear.com/docs/en/packaging/05081663_J_FE16(BA).pdf
footprint LT-FE-16-EPV-BA_N (SOP, 16-Leads, Body 5x4.4mm, Pitch 0.65mm, Thermal Pad 2.74x2.74mm, IPC Medium Density)
footprint LT-FE-16-EPV-BA_L (SOP, 16-Leads, Body 5x4.4mm, Pitch 0.65mm, Thermal Pad 2.74x2.74mm, IPC High Density)
footprint LT-FE-16-EPV-BA_M (SOP, 16-Leads, Body 5x4.4mm, Pitch 0.65mm, Thermal Pad 2.74x2.74mm, IPC Low Density)
part A pins: 1 PGND (power) "Power ground is connected to the emitter of the power switches via an internal sense resistor. It has large currents flowing through it and should be connected to a good quality ground plane.", 3 COL A (oc) "These are the open collectors of the output power switches. They are connected to the outer terminals of the center tap transformer. Large currents flow into these pins so external traces should be kept as short as possible.", 4 RSL (in) "The slew control resistor sets the maximum current and voltage slew rate for the collectors A and B. The minimum resistor value is 3.4k for fast slewing and the maximum resistor is 34k for slow slewing. For more details, see (See Datasheet)", 5 SYNC (in) "The SYNC pin can be used to synchronize the oscillator to an external clock. RT and CT should be set such that the oscillator clock frequency is approximately 10% below the external clock frequency. If unused, this pin (See Datasheet)", 6 CT "The oscillator capacitor pin is used in conjunction with the RT pin to set the oscillator frequency. For RT = 16.9k, CT can be calculated as follows: CT(nF) = 70/fOSC(kHz). The transformer operating frequency and the (See Datasheet)", 7 RT "The oscillator resistor pin is used to set the charge and discharge currents of the oscillator capacitor. The nominal value is 16.9k. The resistance can be adjusted between +/-25% of nominal for better frequency accuracy.", 10 GND (power) "Signal Ground. The oscillator, slew control circuitry and the internal regulator are referred to signal ground. Internally, signal ground is tied to substrate and the exposed backside of the device. Connect the GND pin to (See Datasheet)", 11 ~{SHDN} (in) "The S\H\D\N\ pin is used to shut down the part. Grounding this pin will disable all internal circuitry. Increasing the S\H\D\N\ voltage above the turn-on threshold will enable the part. At the turn-on threshold, (See Datasheet)", 13 VIN (power) "This is the supply pin for the part and should be bypassed with a 4.7uF or greater, low ESR capacitor. When VIN <= 2.5V, an internal undervoltage lockout circuit will trip and turn both outputs off.", 14 COL B (oc) "These are the open collectors of the output power switches. They are connected to the outer terminals of the center tap transformer. Large currents flow into these pins so external traces should be kept as short as possible.", 16 PGND (power) "Power ground is connected to the emitter of the power switches via an internal sense resistor. It has large currents flowing through it and should be connected to a good quality ground plane.", 17 EP (power)
part B pins: 2 NC, 8 NC, 9 NC, 12 NC, 15 NC

## LT3439EFE#TRPBF
designator U?
Slew Rate Controlled Ultralow Noise1 A Isolated DC/DC Transformer Driver Min, 16-pin SOP (FE-16-EPV-BA), -40 to 125 degC, Pb-Free, Tape and Reel; Manufacturer: Linear Technology; PartNumber: LT3439EFE#TRPBF; Frequency Sync Range: 20kHz - 300kHz; Number of Outputs: 1; PackageVersion: Rev. I, 05/2011; PackageReference: FE-16; PackageDescription: 16-Pin Plastic TSSOP, Body 5 x 4.4 mm, Pitch 0.65 mm; Supplier 1: Digi-Key; Supplier Part Number 1: LT3439EFE#TRPBF-ND; Supplier 2: Newark; Supplier Part Number 2: 57M8158; Packing: Tape and Reel; RoHS: TRUE; Mounting Technology: Surface Mount; ComponentLink1Description: Manufacturer URL; ComponentLink1URL: http://www.linear.com/; ComponentLink2Description: Datasheet; ComponentLink2URL: http://cds.linear.com/docs/en/datasheet/3439fs.pdf; ComponentLink3Description: Package Specification; ComponentLink3URL: http://cds.linear.com/docs/en/packaging/05081663_J_FE16(BA).pdf
footprint LT-FE-16-EPV-BA_N (SOP, 16-Leads, Body 5x4.4mm, Pitch 0.65mm, Thermal Pad 2.74x2.74mm, IPC Medium Density)
footprint LT-FE-16-EPV-BA_L (SOP, 16-Leads, Body 5x4.4mm, Pitch 0.65mm, Thermal Pad 2.74x2.74mm, IPC High Density)
footprint LT-FE-16-EPV-BA_M (SOP, 16-Leads, Body 5x4.4mm, Pitch 0.65mm, Thermal Pad 2.74x2.74mm, IPC Low Density)
part A pins: 1 PGND (power) "Power ground is connected to the emitter of the power switches via an internal sense resistor. It has large currents flowing through it and should be connected to a good quality ground plane.", 3 COL A (oc) "These are the open collectors of the output power switches. They are connected to the outer terminals of the center tap transformer. Large currents flow into these pins so external traces should be kept as short as possible.", 4 RSL (in) "The slew control resistor sets the maximum current and voltage slew rate for the collectors A and B. The minimum resistor value is 3.4k for fast slewing and the maximum resistor is 34k for slow slewing. For more details, see (See Datasheet)", 5 SYNC (in) "The SYNC pin can be used to synchronize the oscillator to an external clock. RT and CT should be set such that the oscillator clock frequency is approximately 10% below the external clock frequency. If unused, this pin (See Datasheet)", 6 CT "The oscillator capacitor pin is used in conjunction with the RT pin to set the oscillator frequency. For RT = 16.9k, CT can be calculated as follows: CT(nF) = 70/fOSC(kHz). The transformer operating frequency and the (See Datasheet)", 7 RT "The oscillator resistor pin is used to set the charge and discharge currents of the oscillator capacitor. The nominal value is 16.9k. The resistance can be adjusted between +/-25% of nominal for better frequency accuracy.", 10 GND (power) "Signal Ground. The oscillator, slew control circuitry and the internal regulator are referred to signal ground. Internally, signal ground is tied to substrate and the exposed backside of the device. Connect the GND pin to (See Datasheet)", 11 ~{SHDN} (in) "The S\H\D\N\ pin is used to shut down the part. Grounding this pin will disable all internal circuitry. Increasing the S\H\D\N\ voltage above the turn-on threshold will enable the part. At the turn-on threshold, (See Datasheet)", 13 VIN (power) "This is the supply pin for the part and should be bypassed with a 4.7uF or greater, low ESR capacitor. When VIN <= 2.5V, an internal undervoltage lockout circuit will trip and turn both outputs off.", 14 COL B (oc) "These are the open collectors of the output power switches. They are connected to the outer terminals of the center tap transformer. Large currents flow into these pins so external traces should be kept as short as possible.", 16 PGND (power) "Power ground is connected to the emitter of the power switches via an internal sense resistor. It has large currents flowing through it and should be connected to a good quality ground plane.", 17 EP (power)
part B pins: 2 NC, 8 NC, 9 NC, 12 NC, 15 NC

## LT3460EDC-1#PBF
designator U?
650 kHz Step-Up DC/DC Converter, 6-pin SON (DC6-6), -40 to 85 degC, Pb-Free; Manufacturer: Linear Technology; PartNumber: LT3460EDC-1#PBF; Number of Outputs: 1; DatasheetVersion: Rev. B; PackageVersion: Rev. B, 06/2010; PackageReference: DC6-6; PackageDescription: 6-Pin Plastic DFN, Body 2 x 2 mm, Pitch 0.5 mm; Supplier 1: Newark; Supplier Part Number 1: 78T3984; RoHS: TRUE; Mounting Technology: Surface Mount; Code_JEDEC: MO-229; ComponentLink1Description: Manufacturer URL; ComponentLink1URL: http://www.linear.com/; ComponentLink2Description: Datasheet; ComponentLink2URL: http://cds.linear.com/docs/en/datasheet/34601fb.pdf; ComponentLink3Description: Package Specification; ComponentLink3URL: http://cds.linear.com/docs/en/packaging/DFN_6_05-08-1703.pdf
footprint LT-DC6-6_V (SON, 6-Leads, Body 2x2mm, Pitch 0.5mm, Thermal Pad 1.42x0.61mm)
pins: 1 FB (in) "Feedback Pin. Reference voltage is 1.255V. Connect resistor divider tap here. Minimize trace area at FB. Set VOUT according to VOUT = 1.255V (1 + R1/R2).", 2 NC "No-Connects. These pins are not connected to internal circuitry. They should be tied to ground to improve thermal and electrical performance.", 3 SW (power) "Switch Pin. Connect inductor/diode here. Minimize trace at this pin to reduce EMI.", 4 VIN (power) "Input Supply Pin. Must be locally bypassed.", 5 NC "No-Connects. These pins are not connected to internal circuitry. They should be tied to ground to improve thermal and electrical performance.", 6 ~{SHDN} (in) "Shutdown Pin. Tie to 1.5V or higher to enable device; 0.4V or less to disable device. Also functions as soft-start. Use RC filter (47k, 47nF typ) as shown in Figure 1.", 7 EP (power) "Ground Pin. Tie directly to local ground plane."

## LT3460EDC-1#TRMPBF
designator U?
650 kHz Step-Up DC/DC Converter, 6-pin SON (DC6-6), -40 to 85 degC, Pb-Free, Mini Tape and Reel; Manufacturer: Linear Technology; PartNumber: LT3460EDC-1#TRMPBF; Number of Outputs: 1; DatasheetVersion: Rev. B; PackageVersion: Rev. B, 06/2010; PackageReference: DC6-6; PackageDescription: 6-Pin Plastic DFN, Body 2 x 2 mm, Pitch 0.5 mm; Supplier 1: Digi-Key; Supplier Part Number 1: LT3460EDC-1#TRMPBF-ND; Supplier 2: Newark; Supplier Part Number 2: 75M4720; Packing: Mini Tape and Reel; RoHS: TRUE; Mounting Technology: Surface Mount; Code_JEDEC: MO-229; ComponentLink1Description: Manufacturer URL; ComponentLink1URL: http://www.linear.com/; ComponentLink2Description: Datasheet; ComponentLink2URL: http://cds.linear.com/docs/en/datasheet/34601fb.pdf; ComponentLink3Description: Package Specification; ComponentLink3URL: http://cds.linear.com/docs/en/packaging/DFN_6_05-08-1703.pdf
footprint LT-DC6-6_V (SON, 6-Leads, Body 2x2mm, Pitch 0.5mm, Thermal Pad 1.42x0.61mm)
pins: 1 FB (in) "Feedback Pin. Reference voltage is 1.255V. Connect resistor divider tap here. Minimize trace area at FB. Set VOUT according to VOUT = 1.255V (1 + R1/R2).", 2 NC "No-Connects. These pins are not connected to internal circuitry. They should be tied to ground to improve thermal and electrical performance.", 3 SW (power) "Switch Pin. Connect inductor/diode here. Minimize trace at this pin to reduce EMI.", 4 VIN (power) "Input Supply Pin. Must be locally bypassed.", 5 NC "No-Connects. These pins are not connected to internal circuitry. They should be tied to ground to improve thermal and electrical performance.", 6 ~{SHDN} (in) "Shutdown Pin. Tie to 1.5V or higher to enable device; 0.4V or less to disable device. Also functions as soft-start. Use RC filter (47k, 47nF typ) as shown in Figure 1.", 7 EP (power) "Ground Pin. Tie directly to local ground plane."

## LT3460EDC-1#TRPBF
designator U?
650 kHz Step-Up DC/DC Converter, 6-pin SON (DC6-6), -40 to 85 degC, Pb-Free, Tape and Reel; Manufacturer: Linear Technology; PartNumber: LT3460EDC-1#TRPBF; Number of Outputs: 1; DatasheetVersion: Rev. B; PackageVersion: Rev. B, 06/2010; PackageReference: DC6-6; PackageDescription: 6-Pin Plastic DFN, Body 2 x 2 mm, Pitch 0.5 mm; Supplier 1: Digi-Key; Supplier Part Number 1: LT3460EDC-1#TRPBF-ND; Supplier 2: Newark; Supplier Part Number 2: 75M4721; Packing: Tape and Reel; RoHS: TRUE; Mounting Technology: Surface Mount; Code_JEDEC: MO-229; ComponentLink1Description: Manufacturer URL; ComponentLink1URL: http://www.linear.com/; ComponentLink2Description: Datasheet; ComponentLink2URL: http://cds.linear.com/docs/en/datasheet/34601fb.pdf; ComponentLink3Description: Package Specification; ComponentLink3URL: http://cds.linear.com/docs/en/packaging/DFN_6_05-08-1703.pdf
footprint LT-DC6-6_V (SON, 6-Leads, Body 2x2mm, Pitch 0.5mm, Thermal Pad 1.42x0.61mm)
pins: 1 FB (in) "Feedback Pin. Reference voltage is 1.255V. Connect resistor divider tap here. Minimize trace area at FB. Set VOUT according to VOUT = 1.255V (1 + R1/R2).", 2 NC "No-Connects. These pins are not connected to internal circuitry. They should be tied to ground to improve thermal and electrical performance.", 3 SW (power) "Switch Pin. Connect inductor/diode here. Minimize trace at this pin to reduce EMI.", 4 VIN (power) "Input Supply Pin. Must be locally bypassed.", 5 NC "No-Connects. These pins are not connected to internal circuitry. They should be tied to ground to improve thermal and electrical performance.", 6 ~{SHDN} (in) "Shutdown Pin. Tie to 1.5V or higher to enable device; 0.4V or less to disable device. Also functions as soft-start. Use RC filter (47k, 47nF typ) as shown in Figure 1.", 7 EP (power) "Ground Pin. Tie directly to local ground plane."

## LT3460ES5
designator U?
1.3 MHz Step-Up DC/DC Converter, 5-pin SOT23 (S5-5), -40 to 85 degC; Manufacturer: Linear Technology; PartNumber: LT3460ES5; Number of Outputs: 1; DatasheetVersion: Rev. B; PackageVersion: Jun-10; PackageReference: S5-5; PackageDescription: 5-Pin Plastic TSOT-23, Body 1.63 x 2.90 mm, Pitch 0.95 mm; RoHS: FALSE; Mounting Technology: Surface Mount; Code_JEDEC: MO-193; ComponentLink1Description: Manufacturer URL; ComponentLink1URL: http://www.linear.com/; ComponentLink2Description: Datasheet; ComponentLink2URL: http://cds.linear.com/docs/en/datasheet/34601fb.pdf; ComponentLink3Description: Package Specification; ComponentLink3URL: http://cds.linear.com/docs/en/packaging/SOT_5_05-08-1635.pdf
footprint LT-S5-5-TSOT-23_N (SOT23, 5-Leads, Body 2.90x1.63mm, Pitch 0.95mm, IPC Medium Density)
footprint LT-S5-5-TSOT-23_L (SOT23, 5-Leads, Body 2.90x1.63mm, Pitch 0.95mm, IPC High Density)
footprint LT-S5-5-TSOT-23_M (SOT23, 5-Leads, Body 2.90x1.63mm, Pitch 0.95mm, IPC Low Density)
pins: 1 SW (power) "Switch Pin. Connect inductor/diode here. Minimize trace at this pin to reduce EMI.", 2 GND (power) "Ground Pin. Tie directly to local ground plane.", 3 FB (in) "Feedback Pin.", 4 ~{SHDN} (in) "Shutdown Pin.", 5 VIN (power) "Input Supply Pin. Must be locally bypassed."

## LT3460ES5#PBF
designator U?
1.3 MHz Step-Up DC/DC Converter, 5-pin SOT23 (S5-5), -40 to 85 degC, Pb-Free; Manufacturer: Linear Technology; PartNumber: LT3460ES5#PBF; Number of Outputs: 1; DatasheetVersion: Rev. B; PackageVersion: Jun-10; PackageReference: S5-5; PackageDescription: 5-Pin Plastic TSOT-23, Body 1.63 x 2.90 mm, Pitch 0.95 mm; Supplier 1: Farnell; Supplier Part Number 1: 2308199; Supplier 2: Newark; Supplier Part Number 2: 78T3987; RoHS: TRUE; Mounting Technology: Surface Mount; Code_JEDEC: MO-193; ComponentLink1Description: Manufacturer URL; ComponentLink1URL: http://www.linear.com/; ComponentLink2Description: Datasheet; ComponentLink2URL: http://cds.linear.com/docs/en/datasheet/34601fb.pdf; ComponentLink3Description: Package Specification; ComponentLink3URL: http://cds.linear.com/docs/en/packaging/SOT_5_05-08-1635.pdf
footprint LT-S5-5-TSOT-23_N (SOT23, 5-Leads, Body 2.90x1.63mm, Pitch 0.95mm, IPC Medium Density)
footprint LT-S5-5-TSOT-23_L (SOT23, 5-Leads, Body 2.90x1.63mm, Pitch 0.95mm, IPC High Density)
footprint LT-S5-5-TSOT-23_M (SOT23, 5-Leads, Body 2.90x1.63mm, Pitch 0.95mm, IPC Low Density)
pins: 1 SW (power) "Switch Pin. Connect inductor/diode here. Minimize trace at this pin to reduce EMI.", 2 GND (power) "Ground Pin. Tie directly to local ground plane.", 3 FB (in) "Feedback Pin.", 4 ~{SHDN} (in) "Shutdown Pin.", 5 VIN (power) "Input Supply Pin. Must be locally bypassed."

## LT3460ES5#TR
designator U?
1.3 MHz Step-Up DC/DC Converter, 5-pin SOT23 (S5-5), -40 to 85 degC, Tape and Reel; Manufacturer: Linear Technology; PartNumber: LT3460ES5#TR; Number of Outputs: 1; DatasheetVersion: Rev. B; PackageVersion: Jun-10; PackageReference: S5-5; PackageDescription: 5-Pin Plastic TSOT-23, Body 1.63 x 2.90 mm, Pitch 0.95 mm; Supplier 1: Digi-Key; Supplier Part Number 1: LT3460ES5#TR-ND; Packing: Tape and Reel; RoHS: FALSE; Mounting Technology: Surface Mount; Code_JEDEC: MO-193; ComponentLink1Description: Manufacturer URL; ComponentLink1URL: http://www.linear.com/; ComponentLink2Description: Datasheet; ComponentLink2URL: http://cds.linear.com/docs/en/datasheet/34601fb.pdf; ComponentLink3Description: Package Specification; ComponentLink3URL: http://cds.linear.com/docs/en/packaging/SOT_5_05-08-1635.pdf
footprint LT-S5-5-TSOT-23_N (SOT23, 5-Leads, Body 2.90x1.63mm, Pitch 0.95mm, IPC Medium Density)
footprint LT-S5-5-TSOT-23_L (SOT23, 5-Leads, Body 2.90x1.63mm, Pitch 0.95mm, IPC High Density)
footprint LT-S5-5-TSOT-23_M (SOT23, 5-Leads, Body 2.90x1.63mm, Pitch 0.95mm, IPC Low Density)
pins: 1 SW (power) "Switch Pin. Connect inductor/diode here. Minimize trace at this pin to reduce EMI.", 2 GND (power) "Ground Pin. Tie directly to local ground plane.", 3 FB (in) "Feedback Pin.", 4 ~{SHDN} (in) "Shutdown Pin.", 5 VIN (power) "Input Supply Pin. Must be locally bypassed."

## LT3460ES5#TRM
designator U?
1.3 MHz Step-Up DC/DC Converter, 5-pin SOT23 (S5-5), -40 to 85 degC, Mini Tape and Reel; Manufacturer: Linear Technology; PartNumber: LT3460ES5#TRM; Number of Outputs: 1; DatasheetVersion: Rev. B; PackageVersion: Jun-10; PackageReference: S5-5; PackageDescription: 5-Pin Plastic TSOT-23, Body 1.63 x 2.90 mm, Pitch 0.95 mm; Supplier 1: Digi-Key; Supplier Part Number 1: LT3460ES5#TRMTR-ND; Supplier 2: Digi-Key; Supplier Part Number 2: LT3460ES5#TRMCT-ND; Packing: Mini Tape and Reel; RoHS: FALSE; Mounting Technology: Surface Mount; Code_JEDEC: MO-193; ComponentLink1Description: Manufacturer URL; ComponentLink1URL: http://www.linear.com/; ComponentLink2Description: Datasheet; ComponentLink2URL: http://cds.linear.com/docs/en/datasheet/34601fb.pdf; ComponentLink3Description: Package Specification; ComponentLink3URL: http://cds.linear.com/docs/en/packaging/SOT_5_05-08-1635.pdf
footprint LT-S5-5-TSOT-23_N (SOT23, 5-Leads, Body 2.90x1.63mm, Pitch 0.95mm, IPC Medium Density)
footprint LT-S5-5-TSOT-23_L (SOT23, 5-Leads, Body 2.90x1.63mm, Pitch 0.95mm, IPC High Density)
footprint LT-S5-5-TSOT-23_M (SOT23, 5-Leads, Body 2.90x1.63mm, Pitch 0.95mm, IPC Low Density)
pins: 1 SW (power) "Switch Pin. Connect inductor/diode here. Minimize trace at this pin to reduce EMI.", 2 GND (power) "Ground Pin. Tie directly to local ground plane.", 3 FB (in) "Feedback Pin.", 4 ~{SHDN} (in) "Shutdown Pin.", 5 VIN (power) "Input Supply Pin. Must be locally bypassed."